# Altium footprint library DIP TO.PcbLib: 11 footprints
Each footprint in its own frame and in the unit in brackets; x right, y up, seen from the top. Pads: shape width x height; smd on the part's side, far side on the other; paste and mask are expansions set on the pad; w line width, h text height; cw(c..) or ccw(c..) is an arc to the next point about the centre after c.
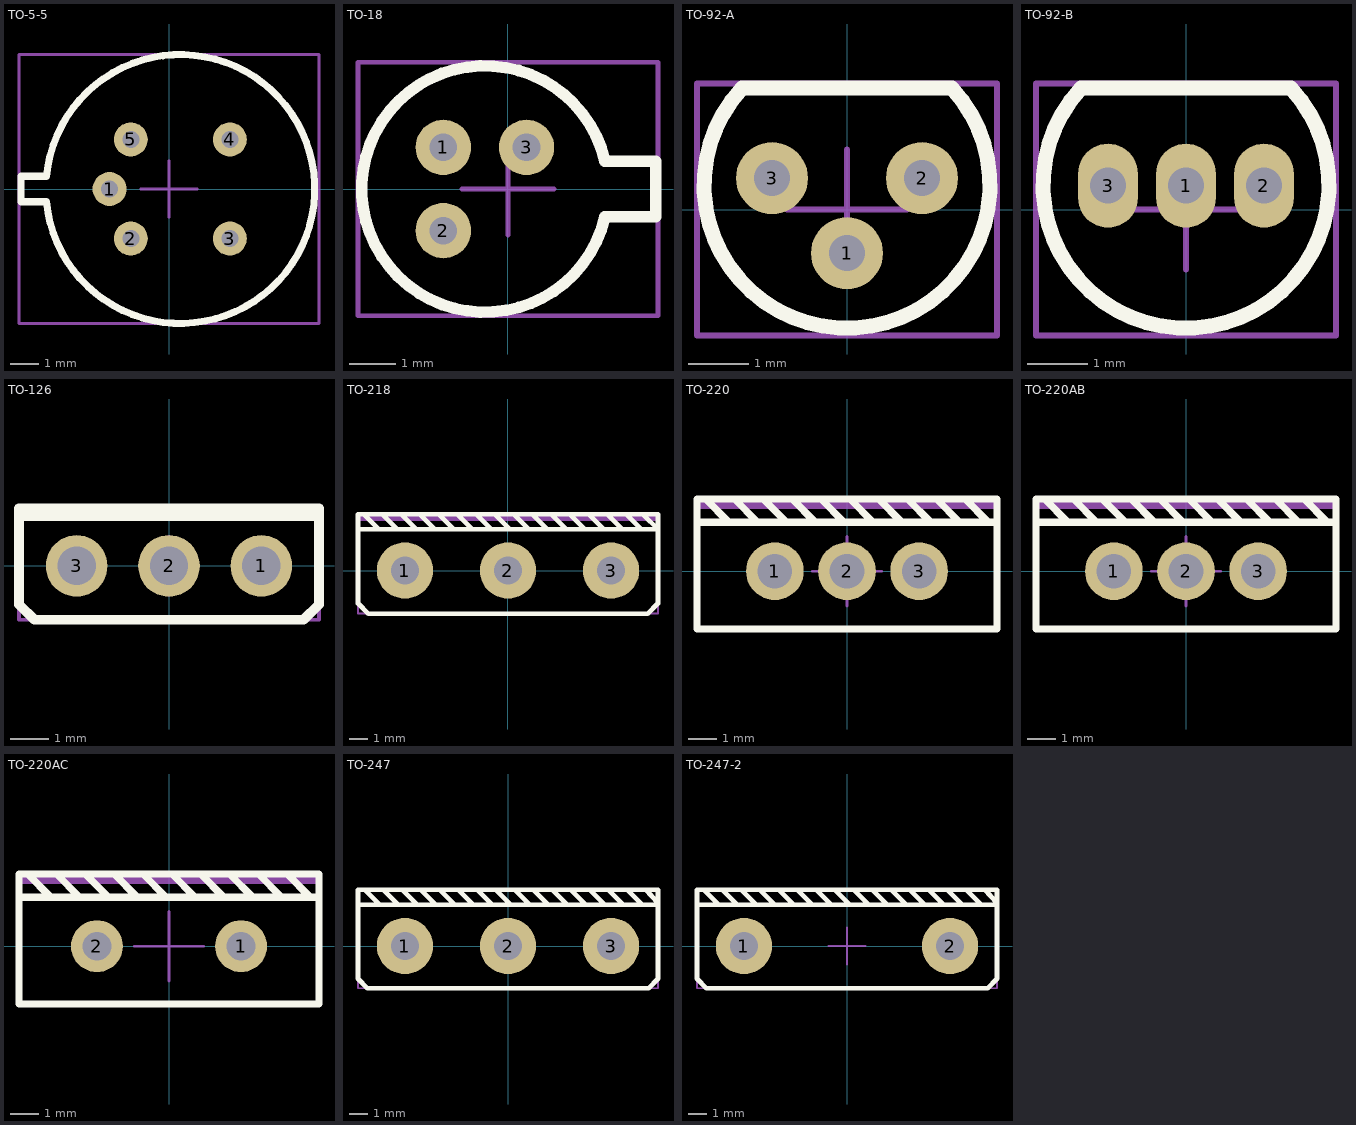
[diagram p0: the footprints below, top view; thin cyan lines are the x and y axes]

## TO-5-5 [mm] "Металлостеклянный корпус 8,5 х 6,6mm"
height 8
pads (5):
  round 1.2 hole 0.6: 1(-2.1,0) 2(-1.35,-1.75) 3(2.15,-1.75) 4(2.15,1.75) 5(-1.35,1.75)
Top Overlay:
  lines w0.25: -4.328,-0.453 ccw(c0.4,0) -4.329,0.45 ; -4.325,-0.45 -5.225,-0.45 -5.225,0.45 -4.325,0.45
Mechanical 13:
  lines w0.1: -4.328,-0.453 ccw(c0.4,0) -4.329,0.45 ; -4.325,-0.45 -5.225,-0.45 -5.225,0.45 -4.325,0.45
Mechanical 15:
  lines w0.1: -1,0 1,0 ; 0,-1 0,1 ; -5.3,-4.75 -5.3,4.75 5.3,4.75 5.3,-4.75 -5.3,-4.75
3D body "КТ-2.STEP": height 8.6, standoff -1, extent -4.975,-4.7 5.125,4.7

## TO-18 [mm] "КТ-1-7 Металлостеклянный корпус"
height 12
pads (3):
  round 1.2 hole 0.6: 1(-1.402,0.902) 2(-1.402,-0.902) 3(0.402,0.902)
Top Overlay:
  lines w0.25: 2.095,0.626 ccw(c-0.5,0) 2.096,-0.623 ; 2.1,-0.6 3.2,-0.6 3.2,0.6 2.1,0.6
Mechanical 13:
  lines w0.1: 2.095,0.626 ccw(c-0.5,0) 2.096,-0.623 ; 2.1,-0.6 3.2,-0.6 3.2,0.6 2.1,0.6
Mechanical 15:
  lines w0.1: -1,0 1,0 ; 0,-1 0,1 ; -3.25,-2.75 3.25,-2.75 3.25,2.75 -3.25,2.75 -3.25,-2.75
3D body "User Library-TO-18-1.step": height 8.9, standoff -1, extent -3.155,-2.655 3.108,2.655

## TO-92-A [mm]
height 10
pads (3):
  round 1.2 hole 0.6: 1(0,-0.725) 2(1.25,0.525) 3(-1.25,0.525)
Top Overlay:
  lines w0.25: -1.75,2.025 ccw(c0,0.408) 1.75,2.025 -1.75,2.025
Mechanical 13:
  lines w0.1: -1.75,2.025 ccw(c0,0.408) 1.75,2.025 -1.75,2.025
Mechanical 15:
  lines w0.1: -1,0 1,0 ; 0,-1 0,1 ; -2.5,-2.1 2.5,-2.1 2.5,2.1 -2.5,2.1 -2.5,-2.1
3D body "User Library-TO-92B.step": height 10, standoff -1.02, extent -2.4,-1.915 2.4,2.015

## TO-92-B [mm]
height 10
pads (3):
  oval 1x1.4 hole 0.6: 1(0,0.4) 2(1.3,0.4) 3(-1.3,0.4)
Top Overlay:
  lines w0.25: -1.75,2.025 ccw(c0,0.408) 1.75,2.025 -1.75,2.025
Mechanical 13:
  lines w0.1: -1.75,2.025 ccw(c0,0.408) 1.75,2.025 -1.75,2.025
Mechanical 15:
  lines w0.1: -1,0 1,0 ; 0,-1 0,1 ; -2.5,-2.1 2.5,-2.1 2.5,2.1 -2.5,2.1 -2.5,-2.1
3D body "User Library-TO-92A.step": height 10, standoff -1, extent -2.4,-1.915 2.4,2.015

## TO-126 [mm] "КТ-27"
height 12
pads (3):
  round 1.6 hole 1: 1(2.4,0) 2(0,0) 3(-2.4,0)
Top Overlay:
  lines w0.254: -3.9,1.3 3.9,1.3 ; -3.9,-1 -3.5,-1.4 3.5,-1.4 3.9,-1 3.9,1.5 -3.9,1.5 -3.9,-1
Mechanical 13:
  lines w0.1: -3.9,1.3 3.9,1.3 ; -3.9,1.4 3.9,1.4 ; -3.9,-1.4 3.9,-1.4 3.9,1.5 -3.9,1.5 -3.9,-1.4
Mechanical 15:
  lines w0.1: -0.75,0 0.75,0 ; 0,-0.75 0,0.75 ; -3.9,-1.4 -3.9,1.4 3.9,1.4 3.9,-1.4 -3.9,-1.4
3D body "User Library-2SB649A (TO-126 MOD) v3.step": height 15, standoff -2, extent -4,-1.35 4,1.35

## TO-218 [mm] "КТ-43В"
height 20
pads (3):
  round 3 hole 1.5: 1(-5.5,0) 2(0,0) 3(5.5,0)
Top Overlay:
  lines w0.25: -8,2.2 8,2.2 7.25,2.95 ; -8,3 8,3 ; -7.7,3 -6.9,2.2 ; -6.7,3 -5.9,2.2 ; -5.7,3 -4.9,2.2 ; -4.7,3 -3.9,2.2 ; -3.7,3 -2.9,2.2 ; -2.7,3 -1.9,2.2 ; -1.7,3 -0.9,2.2 ; -0.7,3 0.1,2.2 ; 0.3,3 1.1,2.2 ; 1.3,3 2.1,2.2 ; 2.3,3 3.1,2.2 ; 3.3,3 4.1,2.2 ; 4.3,3 5.1,2.2 ; 5.3,3 6.1,2.2 ; 6.3,3 7.1,2.2
  lines w0.254: -8,3 -8,-1.75 -7.45,-2.3 7.45,-2.3 8,-1.75 8,3
Mechanical 13:
  lines w0.1: -8,2.7 8,2.7 ; -8,2.8 8,2.8 ; -8,2.9 8,2.9 ; -8,-2.3 -8,3 8,3 8,-2.3 -8,-2.3
Mechanical 15:
  lines w0.1: -1,0 1,0 ; 0,-1 0,1 ; -8,-2.3 8,-2.3 8,3 -8,3 -8,-2.3
3D body "User Library-TO218.STEP": height 23.83, standoff -1.4, extent -7.5,-1.8 7.5,3

## TO-220 [mm]
height 15
pads (3):
  round 2 hole 1.2: 1(-2.5,0) 2(0,0) 3(2.5,0)
Top Overlay:
  lines w0.25: -5.2,1.7 5.2,1.7 ; -4.9,2.5 -4.1,1.7 ; -3.9,2.5 -3.1,1.7 ; -2.9,2.5 -2.1,1.7 ; -1.9,2.5 -1.1,1.7 ; -0.9,2.5 -0.1,1.7 ; 0.1,2.5 0.9,1.7 ; 1.1,2.5 1.9,1.7 ; 2.1,2.5 2.9,1.7 ; 3.1,2.5 3.9,1.7 ; 4.1,2.5 4.9,1.7 ; -5.2,-2 -5.2,2.5 5.2,2.5 5.2,-2 -5.2,-2
Mechanical 13:
  lines w0.1: -5.2,2.2 5.2,2.2 ; -5.2,2.3 5.2,2.3 ; -5.2,2.4 5.2,2.4 ; -5.2,-2 5.2,-2 5.2,2.5 -5.2,2.5 -5.2,-2
Mechanical 15:
  lines w0.1: -1.2,0 1.2,0 ; 0,-1.2 0,1.2 ; -5.2,-2 -5.2,2.5 5.2,2.5 5.2,-2 -5.2,-2
3D body "User Library-Transistors TO-220 FULLPAK 3-PIN.step": height 26.87, standoff -2.6, extent -5.08,-1.783 5.08,2.917

## TO-220AB [mm] "КТ-28-2"
height 15
pads (3):
  round 2 hole 1.2: 1(-2.5,0) 2(0,0) 3(2.5,0)
Top Overlay:
  lines w0.25: -5.2,1.7 5.2,1.7 ; -4.9,2.5 -4.1,1.7 ; -3.9,2.5 -3.1,1.7 ; -2.9,2.5 -2.1,1.7 ; -1.9,2.5 -1.1,1.7 ; -0.9,2.5 -0.1,1.7 ; 0.1,2.5 0.9,1.7 ; 1.1,2.5 1.9,1.7 ; 2.1,2.5 2.9,1.7 ; 3.1,2.5 3.9,1.7 ; 4.1,2.5 4.9,1.7 ; -5.2,-2 5.2,-2 5.2,2.5 -5.2,2.5 -5.2,-2
Mechanical 13:
  lines w0.1: -5.2,2.2 5.2,2.2 ; -5.2,2.3 5.2,2.3 ; -5.2,2.4 5.2,2.4 ; -5.2,-2 -5.2,2.5 5.2,2.5 5.2,-2 -5.2,-2
Mechanical 15:
  lines w0.1: -1.2,0 1.2,0 ; 0,-1.2 0,1.2 ; -5.2,-2 5.2,-2 5.2,2.5 -5.2,2.5 -5.2,-2
3D body "User Library-TO-220-4.STEP": height 26.06, standoff -2.74, extent -5.1,-1.9 5.1,2.6

## TO-220AC [mm] "TO-220-2, КТ-28-1"
height 15
pads (2):
  round 1.8 hole 1: 1(2.5,0) 2(-2.5,0)
Top Overlay:
  lines w0.25: -5.2,1.7 5.2,1.7 ; -4.9,2.5 -4.1,1.7 ; -3.9,2.5 -3.1,1.7 ; -2.9,2.5 -2.1,1.7 ; -1.9,2.5 -1.1,1.7 ; -0.9,2.5 -0.1,1.7 ; 0.1,2.5 0.9,1.7 ; 1.1,2.5 1.9,1.7 ; 2.1,2.5 2.9,1.7 ; 3.1,2.5 3.9,1.7 ; 4.1,2.5 4.9,1.7 ; -5.2,-2 5.2,-2 5.2,2.5 -5.2,2.5 -5.2,-2
Mechanical 13:
  lines w0.1: -5.2,2.2 5.2,2.2 ; -5.2,2.3 5.2,2.3 ; -5.2,2.4 5.2,2.4 ; -5.2,-2 -5.2,2.5 5.2,2.5 5.2,-2 -5.2,-2
Mechanical 15:
  lines w0.1: -1.2,0 1.2,0 ; 0,-1.2 0,1.2 ; -5.2,-2 5.2,-2 5.2,2.5 -5.2,2.5 -5.2,-2
3D body "User Library-TO 220-2.step": height 26.3, standoff -2.08, extent -4.826,-2.25 4.826,2.25

## TO-247 [mm]
height 20
pads (3):
  round 3 hole 1.5: 1(-5.5,0) 2(0,0) 3(5.5,0)
Top Overlay:
  lines w0.25: -7.95,2.2 8,2.2 ; -7.65,3 -6.85,2.2 ; -6.65,3 -5.85,2.2 ; -5.65,3 -4.85,2.2 ; -4.65,3 -3.85,2.2 ; -3.65,3 -2.85,2.2 ; -2.65,3 -1.85,2.2 ; -1.65,3 -0.85,2.2 ; -0.65,3 0.15,2.2 ; 0.35,3 1.15,2.2 ; 1.35,3 2.15,2.2 ; 2.35,3 3.15,2.2 ; 3.35,3 4.15,2.2 ; 4.35,3 5.15,2.2 ; 5.35,3 6.15,2.2 ; 6.35,3 7.15,2.2 ; 7.35,3 8,2.3
  lines w0.254: -8,-1.75 -7.5,-2.25 7.5,-2.25 8,-1.75 8,3 -8,3 -8,-1.75
Mechanical 15:
  lines w0.1: -1,0 1,0 ; 0,-1 0,1 ; -8,-2.25 8,-2.25 8,3 -8,3 -8,-2.25
3D body "User Library-TO-247AC.STEP": height 26.1, standoff -1.5, extent -7.9,-2.3 7.9,3

## TO-247-2 [mm]
height 20
pads (2):
  round 3 hole 1.5: 1(-5.5,0) 2(5.5,0)
Top Overlay:
  lines w0.25: -7.95,2.2 8,2.2 ; -7.65,3 -6.85,2.2 ; -6.65,3 -5.85,2.2 ; -5.65,3 -4.85,2.2 ; -4.65,3 -3.85,2.2 ; -3.65,3 -2.85,2.2 ; -2.65,3 -1.85,2.2 ; -1.65,3 -0.85,2.2 ; -0.65,3 0.15,2.2 ; 0.35,3 1.15,2.2 ; 1.35,3 2.15,2.2 ; 2.35,3 3.15,2.2 ; 3.35,3 4.15,2.2 ; 4.35,3 5.15,2.2 ; 5.35,3 6.15,2.2 ; 6.35,3 7.15,2.2 ; 7.35,3 8,2.3
  lines w0.254: -8,-1.75 -7.5,-2.25 7.5,-2.25 8,-1.75 8,3 -8,3 -8,-1.75
Mechanical 15:
  lines w0.1: -1,0 1,0 ; 0,-1 0,1 ; -8,-2.25 8,-2.25 8,3 -8,3 -8,-2.25
3D body "User Library-User Library-TO-247_NO_CENTER_LEAD.step": height 33.5, standoff -2.9, extent -7.95,-2.4 7.95,2.91